# Altium footprint library RL622.PcbLib: 1 footprints
Each footprint in its own frame and in the unit in brackets; x right, y up, seen from the top. Pads: shape width x height; smd on the part's side, far side on the other; paste and mask are expansions set on the pad; w line width, h text height; cw(c..) or ccw(c..) is an arc to the next point about the centre after c.
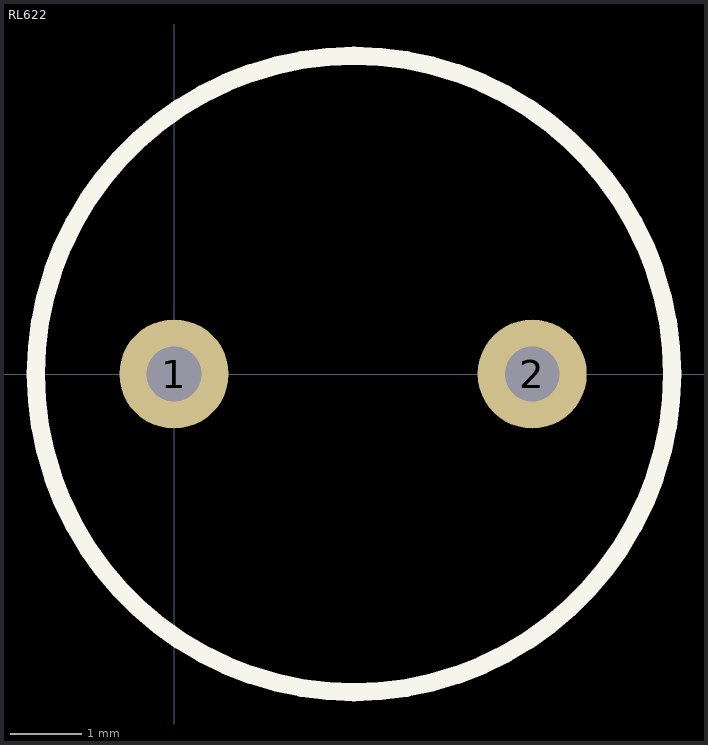
[diagram p0: the footprint, top view; thin cyan lines are the x and y axes]

## RL622 [mil]
pads (2):
  round 60 hole 30: 1(0,0) 2(197,0)
Top Overlay:
  circle w10: c99,0 r175
3D body: height 433, standoff 0, extent -67.84,-167 265.84,167.34